# Altium footprint library LCD 1202.PcbLib: 2 footprints
Each footprint in its own frame and in the unit in brackets; x right, y up, seen from the top. Pads: shape width x height; smd on the part's side, far side on the other; paste and mask are expansions set on the pad; w line width, h text height; cw(c..) or ccw(c..) is an arc to the next point about the centre after c.
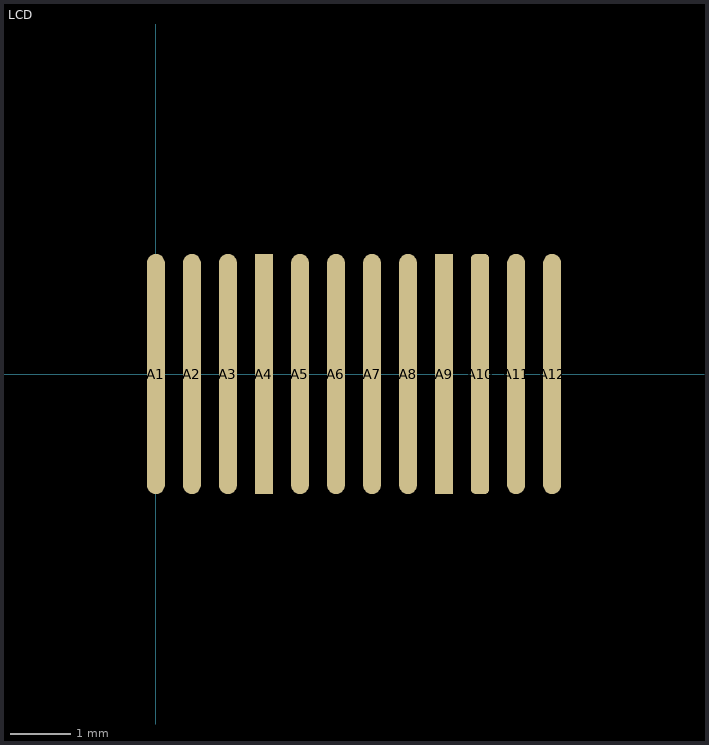
[diagram p0: the footprints below, top view; thin cyan lines are the x and y axes]

## LCD [mm]
pads (12):
  oval 0.3x4 smd: A1(0,0) A2(0.6,0) A3(1.2,0) A5(2.4,0) A6(3,0) A7(3.6,0) A8(4.2,0) A11(6,0) A12(6.6,0)
  rect 0.3x4 smd: A4(1.8,0) A9(4.8,0)
  rrect50% 0.3x4 smd: A10(5.4,0)

## PCBComponent_1 [mm]